# EAGLE library part FS7140 (library clock)
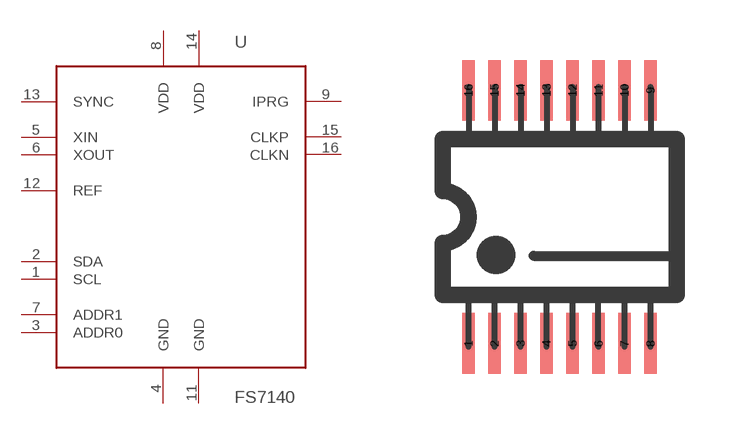
[diagram p4: symbol with the pads of TSSOP16; footprint TSSOP16]

Designator prefix -

## FS7140  [TSSOP16]
1  SCL
2  SDA
3  ADDR0
4  GND
5  XIN
6  XOUT
7  ADDR1
8  VDD
9  IPRG
11  GND
12  REF
13  SYNC
14  VDD
15  CLKP
16  CLKN

## Footprint TSSOP16 (pad centres in mm)
TSSOP16, SMD TSSOP IC package (0.65mm pitch), 16 pins
smd 0.305 x 1.524: 1 -2.275,-3.169; 2 -1.625,-3.169; 3 -0.975,-3.169; 4 -0.325,-3.169; 5 0.325,-3.169; 6 0.975,-3.169; 7 1.625,-3.169; 8 2.275,-3.169; 9 2.275,3.169; 10 1.625,3.169; 11 0.975,3.169; 12 0.325,3.169; 13 -0.325,3.169; 14 -0.975,3.169; 15 -1.625,3.169; 16 -2.275,3.169